# Altium schematic symbol library Common.SchLib: 115 symbols
Pins are listed as number, name and electrical type; pins without a type are passive.

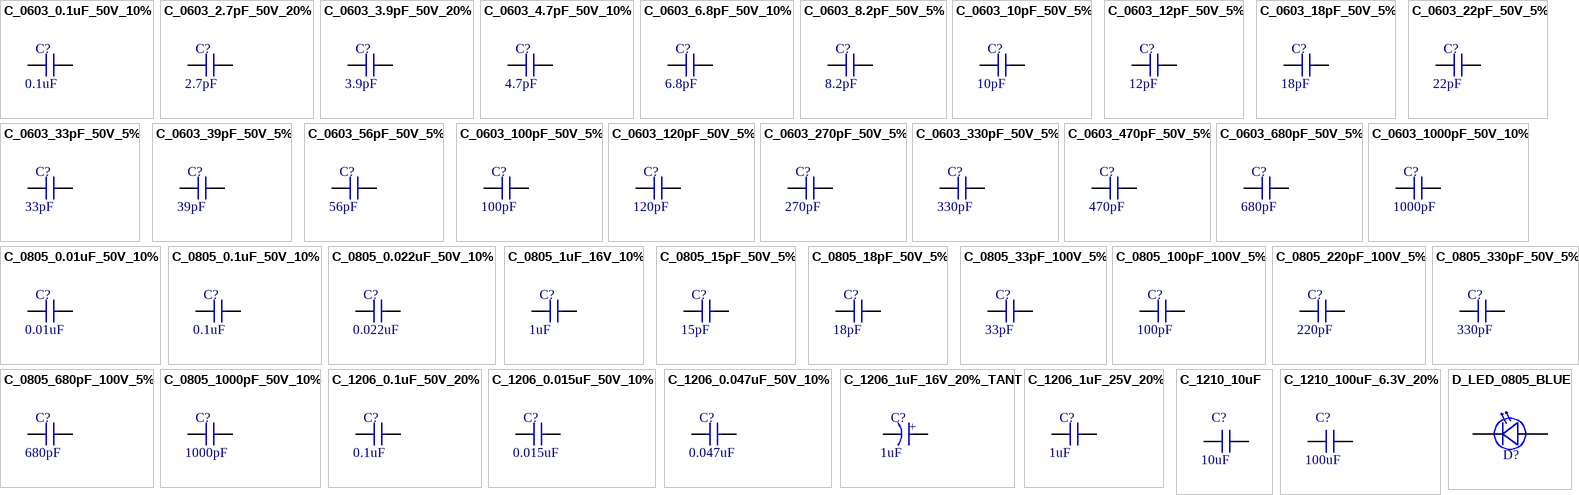
[diagram p0: symbols C_0603_0.1uF_50V_10% to D_LED_0805_BLUE]

## C_0603_0.1uF_50V_10%
designator C?, comment value 0.1uF  (hidden comment: CAP 0.1uF 50V X7R)
CAP CERM 0.1uF 10% 50V 0603; SVP Creator: Spencer Berglund; Package: =SelectedPackage; Voltage: 50V; Temperature Coefficient: X7R; Supplier 1: Digi-Key; Supplier Part Number 1: 1276-1000-1-ND
simulation model Capacitor (Capacitor Model)
footprint 0603_CAPACITOR (0603 Capacitor)
pins: 1, 2

## C_0603_2.7pF_50V_20%
designator C?, comment value 2.7pF  (hidden comment: CAP 2.7pF 50V NP0)
CAP CERM 2.7pF 20% 50V 0603; SVP Creator: Spencer Berglund; Package: =SelectedPackage; Voltage: 50V; Temperature Coefficient: NP0; Supplier 1: Digi-Key; Supplier Part Number 1: 1276-2258-1-ND
simulation model Capacitor (Capacitor Model)
footprint 0603_CAPACITOR (0603 Capacitor)
pins: 1, 2

## C_0603_3.9pF_50V_20%
designator C?, comment value 3.9pF  (hidden comment: CAP 3.9pF 50V NP0)
CAP CERM 3.9pF 20% 50V 0603; SVP Creator: Spencer Berglund; Package: =SelectedPackage; Voltage: 50V; Temperature Coefficient: NP0; Supplier 1: Digi-Key; Supplier Part Number 1: 1276-1146-1-ND
simulation model Capacitor (Capacitor Model)
footprint 0603_CAPACITOR (0603 Capacitor)
pins: 1, 2

## C_0603_4.7pF_50V_10%
designator C?, comment value 4.7pF  (hidden comment: CAP 4.7pF 50V NP0)
CAP CERM 4.7pF 10% 50V 0603; SVP Creator: Spencer Berglund; Package: =SelectedPackage; Voltage: 50V; Temperature Coefficient: NP0; Supplier 1: Digi-Key; Supplier Part Number 1: 1276-1282-1-ND
simulation model Capacitor (Capacitor Model)
footprint 0603_CAPACITOR (0603 Capacitor)
pins: 1, 2

## C_0603_6.8pF_50V_10%
designator C?, comment value 6.8pF  (hidden comment: CAP 6.8pF 50V NP0)
CAP CERM 6.8pF 10% 50V 0603; SVP Creator: Spencer Berglund; Package: =SelectedPackage; Voltage: 50V; Temperature Coefficient: NP0; Supplier 1: Digi-Key; Supplier Part Number 1: 1276-1793-1-ND
simulation model Capacitor (Capacitor Model)
footprint 0603_CAPACITOR (0603 Capacitor)
pins: 1, 2

## C_0603_8.2pF_50V_5%
designator C?, comment value 8.2pF  (hidden comment: CAP 8.2pF 50V NP0)
CAP CERM 8.2pF 5% 50V 0603; SVP Creator: Spencer Berglund; Package: =SelectedPackage; Voltage: 50V; Temperature Coefficient: NP0; Supplier 1: Digi-Key; Supplier Part Number 1: 1276-1257-1-ND
simulation model Capacitor (Capacitor Model)
footprint 0603_CAPACITOR (0603 Capacitor)
pins: 1, 2

## C_0603_10pF_50V_5%
designator C?, comment value 10pF  (hidden comment: CAP 10pF 50V NP0)
CAP CERM 10pF 5% 50V 0603; SVP Creator: Spencer Berglund; Package: =SelectedPackage; Voltage: 50V; Temperature Coefficient: NP0; Supplier 1: Digi-Key; Supplier Part Number 1: 1276-1027-1-ND
simulation model Capacitor (Capacitor Model)
footprint 0603_CAPACITOR (0603 Capacitor)
pins: 1, 2

## C_0603_12pF_50V_5%
designator C?, comment value 12pF  (hidden comment: CAP 12pF 50V NP0)
CAP CERM 12pF 5% 50V 0603; SVP Creator: Spencer Berglund; Package: =SelectedPackage; Voltage: 50V; Temperature Coefficient: NP0; Supplier 1: Digi-Key; Supplier Part Number 1: 1276-1254-1-ND
simulation model Capacitor (Capacitor Model)
footprint 0603_CAPACITOR (0603 Capacitor)
pins: 1, 2

## C_0603_18pF_50V_5%
designator C?, comment value 18pF  (hidden comment: CAP 18pF 50V NP0)
CAP CERM 18pF 5% 50V 0603; SVP Creator: Spencer Berglund; Package: =SelectedPackage; Voltage: 50V; Temperature Coefficient: NP0; Supplier 1: Digi-Key; Supplier Part Number 1: 1276-1089-1-ND
simulation model Capacitor (Capacitor Model)
footprint 0603_CAPACITOR (0603 Capacitor)
pins: 1, 2

## C_0603_22pF_50V_5%
designator C?, comment value 22pF  (hidden comment: CAP 22pF 50V NP0)
CAP CERM 22pF 5% 50V 0603; SVP Creator: Spencer Berglund; Package: =SelectedPackage; Voltage: 50V; Temperature Coefficient: NP0; Supplier 1: Digi-Key; Supplier Part Number 1: 1276-1023-1-ND
simulation model Capacitor (Capacitor Model)
footprint 0603_CAPACITOR (0603 Capacitor)
pins: 1, 2

## C_0603_33pF_50V_5%
designator C?, comment value 33pF  (hidden comment: CAP 33pF 50V NP0)
CAP CERM 33pF 5% 50V 0603; SVP Creator: Spencer Berglund; Package: =SelectedPackage; Voltage: 50V; Temperature Coefficient: NP0; Supplier 1: Digi-Key; Supplier Part Number 1: 1276-1070-1-ND
simulation model Capacitor (Capacitor Model)
footprint 0603_CAPACITOR (0603 Capacitor)
pins: 1, 2

## C_0603_39pF_50V_5%
designator C?, comment value 39pF  (hidden comment: CAP 39pF 50V NP0)
CAP CERM 39pF 5% 50V 0603; SVP Creator: Spencer Berglund; Package: =SelectedPackage; Voltage: 50V; Temperature Coefficient: NP0; Supplier 1: Digi-Key; Supplier Part Number 1: 1276-1087-1-ND
simulation model Capacitor (Capacitor Model)
footprint 0603_CAPACITOR (0603 Capacitor)
pins: 1, 2

## C_0603_56pF_50V_5%
designator C?, comment value 56pF  (hidden comment: CAP 56pF 50V NP0)
CAP CERM 56pF 5% 50V 0603; SVP Creator: Spencer Berglund; Package: =SelectedPackage; Voltage: 50V; Temperature Coefficient: NP0; Supplier 1: Digi-Key; Supplier Part Number 1: 1276-1197-1-ND
simulation model Capacitor (Capacitor Model)
footprint 0603_CAPACITOR (0603 Capacitor)
pins: 1, 2

## C_0603_100pF_50V_5%
designator C?, comment value 100pF  (hidden comment: CAP 100pF 50V NP0)
CAP CERM 100pF 5% 50V 0603; SVP Creator: Spencer Berglund; Package: =SelectedPackage; Voltage: 50V; Temperature Coefficient: NP0; Supplier 1: Digi-Key; Supplier Part Number 1: 1276-1008-1-ND
simulation model Capacitor (Capacitor Model)
footprint 0603_CAPACITOR (0603 Capacitor)
pins: 1, 2

## C_0603_120pF_50V_5%
designator C?, comment value 120pF  (hidden comment: CAP 120pF 50V NP0)
CAP CERM 120pF 5% 50V 0603; SVP Creator: Spencer Berglund; Package: =SelectedPackage; Voltage: 50V; Temperature Coefficient: NP0; Supplier 1: Digi-Key; Supplier Part Number 1: 1276-1160-1-ND
simulation model Capacitor (Capacitor Model)
footprint 0603_CAPACITOR (0603 Capacitor)
pins: 1, 2

## C_0603_270pF_50V_5%
designator C?, comment value 270pF  (hidden comment: CAP 270pF 50V NP0)
CAP CERM 270pF 5% 50V 0603; SVP Creator: Spencer Berglund; Package: =SelectedPackage; Voltage: 50V; Temperature Coefficient: NP0; Supplier 1: Digi-Key; Supplier Part Number 1: 1276-1256-1-ND
simulation model Capacitor (Capacitor Model)
footprint 0603_CAPACITOR (0603 Capacitor)
pins: 1, 2

## C_0603_330pF_50V_5%
designator C?, comment value 330pF  (hidden comment: CAP 330pF 50V NP0)
CAP CERM 330pF 5% 50V 0603; SVP Creator: Spencer Berglund; Package: =SelectedPackage; Voltage: 50V; Temperature Coefficient: NP0; Supplier 1: Digi-Key; Supplier Part Number 1: 1276-1073-1-ND
simulation model Capacitor (Capacitor Model)
footprint 0603_CAPACITOR (0603 Capacitor)
pins: 1, 2

## C_0603_470pF_50V_5%
designator C?, comment value 470pF  (hidden comment: CAP 470pF 50V NP0)
CAP CERM 470pF 5% 50V 0603; SVP Creator: Spencer Berglund; Package: =SelectedPackage; Voltage: 50V; Temperature Coefficient: NP0; Supplier 1: Digi-Key; Supplier Part Number 1: 1276-1168-1-ND
simulation model Capacitor (Capacitor Model)
footprint 0603_CAPACITOR (0603 Capacitor)
pins: 1, 2

## C_0603_680pF_50V_5%
designator C?, comment value 680pF  (hidden comment: CAP 680pF 50V NP0)
CAP CERM 680pF 5% 50V 0603; SVP Creator: Spencer Berglund; Package: =SelectedPackage; Voltage: 50V; Temperature Coefficient: NP0; Supplier 1: Digi-Key; Supplier Part Number 1: 1276-1820-1-ND
simulation model Capacitor (Capacitor Model)
footprint 0603_CAPACITOR (0603 Capacitor)
pins: 1, 2

## C_0603_1000pF_50V_10%
designator C?, comment value 1000pF  (hidden comment: CAP 1000pF 50V X7R)
CAP CERM 1000pF 10% 50V 0603; SVP Creator: Spencer Berglund; Package: =SelectedPackage; Voltage: 50V; Temperature Coefficient: X7R; Supplier 1: Digi-Key; Supplier Part Number 1: 1276-1018-1-ND
simulation model Capacitor (Capacitor Model)
footprint 0603_CAPACITOR (0603 Capacitor)
pins: 1, 2

## C_0805_0.01uF_50V_10%
designator C?, comment value 0.01uF  (hidden comment: CAP 0.01uF 50V X7R)
CAP CERM 0.01uF 10% 50V 0805; SVP Creator: Spencer Berglund; Package: =SelectedPackage; Voltage: 50V; Temperature Coefficient: X7R; Supplier 1: Digi-Key; Supplier Part Number 1: 1276-1078-1-ND
footprint 0805_Capacitor (0805 Capacitor)
simulation model Capacitor (Capacitor Model)
pins: 1, 2

## C_0805_0.1uF_50V_10%
designator C?, comment value 0.1uF  (hidden comment: CAP 0.1uF 50V X7R)
CAP CERM 0.1uF 10% 50V 0805; SVP Creator: Spencer Berglund; Package: =SelectedPackage; Voltage: 50V; Temperature Coefficient: X7R; Supplier 1: Digi-Key; Supplier Part Number 1: 1276-1003-1-ND
footprint 0805_Capacitor (0805 Capacitor)
simulation model Capacitor (Capacitor Model)
pins: 1, 2

## C_0805_0.022uF_50V_10%
designator C?, comment value 0.022uF  (hidden comment: CAP 0.022uF 50V X7R)
CAP CERM 0.022uF 10% 50V 0805; SVP Creator: Spencer Berglund; Package: =SelectedPackage; Voltage: 50V; Temperature Coefficient: X7R; Supplier 1: Digi-Key; Supplier Part Number 1: 1276-1795-1-ND
footprint 0805_Capacitor (0805 Capacitor)
simulation model Capacitor (Capacitor Model)
pins: 1, 2

## C_0805_1uF_16V_10%
designator C?, comment value 1uF  (hidden comment: CAP 1uF 16V X7R)
CAP CERM 1uF 10% 16V 0805; SVP Creator: Spencer Berglund; Package: =SelectedPackage; Voltage: 16V; Temperature Coefficient: X7R; Supplier 1: Digi-Key; Supplier Part Number 1: 1276-6471-1-ND
footprint 0805_Capacitor (0805 Capacitor)
simulation model Capacitor (Capacitor Model)
pins: 1, 2

## C_0805_15pF_50V_5%
designator C?, comment value 15pF  (hidden comment: CAP 15pF 50V NP0)
CAP CERM 15pF 5% 50V 0805; SVP Creator: Spencer Berglund; Package: =SelectedPackage; Voltage: 50V; Temperature Coefficient: NP0; Supplier 1: Digi-Key; Supplier Part Number 1: 1276-1163-1-ND
footprint 0805_Capacitor (0805 Capacitor)
simulation model Capacitor (Capacitor Model)
pins: 1, 2

## C_0805_18pF_50V_5%
designator C?, comment value 18pF  (hidden comment: CAP 18pF 50V NP0)
CAP CERM 18pF 5% 50V 0805; SVP Creator: Spencer Berglund; Package: =SelectedPackage; Voltage: 50V; Temperature Coefficient: NP0; Supplier 1: Digi-Key; Supplier Part Number 1: 1276-1107-1-ND
footprint 0805_Capacitor (0805 Capacitor)
simulation model Capacitor (Capacitor Model)
pins: 1, 2

## C_0805_33pF_100V_5%
designator C?, comment value 33pF  (hidden comment: CAP 33pF 100V C0G)
CAP CERM 33pF 5% 100V 0805; SVP Creator: Spencer Berglund; Package: =SelectedPackage; Voltage: 100V; Temperature Coefficient: C0G; Supplier 1: Digi-Key; Supplier Part Number 1: 1276-2640-1-ND
footprint 0805_Capacitor (0805 Capacitor)
simulation model Capacitor (Capacitor Model)
pins: 1, 2

## C_0805_100pF_100V_5%
designator C?, comment value 100pF  (hidden comment: CAP 100pF 100V C0G)
CAP CERM 100pF 5% 100V 0805; SVP Creator: Spencer Berglund; Package: =SelectedPackage; Voltage: 100V; Temperature Coefficient: C0G; Supplier 1: Digi-Key; Supplier Part Number 1: 1276-1261-1-ND
footprint 0805_Capacitor (0805 Capacitor)
simulation model Capacitor (Capacitor Model)
pins: 1, 2

## C_0805_220pF_100V_5%
designator C?, comment value 220pF  (hidden comment: CAP 220pF 100V C0G)
CAP CERM 220pF 5% 100V 0805; SVP Creator: Spencer Berglund; Package: =SelectedPackage; Voltage: 100V; Temperature Coefficient: C0G; Supplier 1: Digi-Key; Supplier Part Number 1: 1276-2615-1-ND
footprint 0805_Capacitor (0805 Capacitor)
simulation model Capacitor (Capacitor Model)
pins: 1, 2

## C_0805_330pF_50V_5%
designator C?, comment value 330pF  (hidden comment: CAP 330pF 50V NP0)
CAP CERM 330pF 5% 50V 0805; SVP Creator: Spencer Berglund; Package: =SelectedPackage; Voltage: 50V; Temperature Coefficient: NP0; Supplier 1: Digi-Key; Supplier Part Number 1: 1276-2646-1-ND
footprint 0805_Capacitor (0805 Capacitor)
simulation model Capacitor (Capacitor Model)
pins: 1, 2

## C_0805_680pF_100V_5%
designator C?, comment value 680pF  (hidden comment: CAP 680pF 100V C0G)
CAP CERM 680pF 5% 100V 0805; SVP Creator: Spencer Berglund; Package: =SelectedPackage; Voltage: 100V; Temperature Coefficient: C0G; Supplier 1: Digi-Key; Supplier Part Number 1: 1276-1835-1-ND
footprint 0805_Capacitor (0805 Capacitor)
simulation model Capacitor (Capacitor Model)
pins: 1, 2

## C_0805_1000pF_50V_10%
designator C?, comment value 1000pF  (hidden comment: CAP 1000pF 50V X7R)
CAP CERM 1000pF 10% 50V 0805; SVP Creator: Spencer Berglund; Package: =SelectedPackage; Voltage: 50V; Temperature Coefficient: X7R; Supplier 1: Digi-Key; Supplier Part Number 1: 1276-1020-1-ND
footprint 0805_Capacitor (0805 Capacitor)
simulation model Capacitor (Capacitor Model)
pins: 1, 2

## C_1206_0.1uF_50V_20%
designator C?, comment value 0.1uF  (hidden comment: CAP 0.1uF 50V X7R)
CAP CERM 0.1uF 20% 50V 1206; SVP Creator: Spencer Berglund; Package: =SelectedPackage; Voltage: 50V; Temperature Coefficient: X7R; Supplier 1: Digi-Key; Supplier Part Number 1: 1276-2746-1-ND
simulation model Capacitor (Capacitor Model)
footprint 1206_CAPACITOR (1206 Resistor/Capacitor)
pins: 1, 2

## C_1206_0.015uF_50V_10%
designator C?, comment value 0.015uF  (hidden comment: CAP 0.015uF 50V X7R)
CAP CERM 0.015uF 10% 50V 1206; SVP Creator: Spencer Berglund; Package: =SelectedPackage; Voltage: 50V; Temperature Coefficient: X7R; Supplier 1: Digi-Key; Supplier Part Number 1: 1276-1773-1-ND
simulation model Capacitor (Capacitor Model)
footprint 1206_CAPACITOR (1206 Resistor/Capacitor)
pins: 1, 2

## C_1206_0.047uF_50V_10%
designator C?, comment value 0.047uF  (hidden comment: CAP 0.047uF 50V X7R)
CAP CERM 0.047uF 10% 50V 1206; SVP Creator: Spencer Berglund; Package: =SelectedPackage; Voltage: 50V; Temperature Coefficient: X7R; Supplier 1: Digi-Key; Supplier Part Number 1: 1276-1149-1-ND
simulation model Capacitor (Capacitor Model)
footprint 1206_CAPACITOR (1206 Resistor/Capacitor)
pins: 1, 2

## C_1206_1uF_16V_20%_TANT
designator C?  value 1uF
CAP TANT 1uF 20% 16V 1206; SVP Creator: Spencer Berglund; Type: Tantalum; Package: =SelectedPackage; Voltage: 16V; Supplier 1: Digi-Key; Supplier Part Number 1: 399-3681-1-ND
simulation model Capacitor (Capacitor Model)
footprint 1206_CAPACITOR_TANT (1206 Capacitor (Tantalum))
pins: 1, 2
text: +

## C_1206_1uF_25V_20%
designator C?, comment value 1uF  (hidden comment: CAP 1uF 25V X7R)
CAP CERM 1uF 20% 25V 1206; SVP Creator: Spencer Berglund; Package: =SelectedPackage; Voltage: 25V; Temperature Coefficient: X7R; Supplier 1: Digi-Key; Supplier Part Number 1: 1276-3098-1-ND
simulation model Capacitor (Capacitor Model)
footprint 1206_CAPACITOR (1206 Resistor/Capacitor)
pins: 1, 2

## C_1210_10uF
designator C?  value 10uF
CAP CER 10UF 50V 10% X5R 1210; Manufacturer: Taiyo Yuden; Manufacturer PN: UMK325BJ106KM-T; SVP Creator: Matt Rogge; Package: 1210; Supplier 1: Digi-Key; Supplier Part Number 1: 587-2247-1-ND
footprint 1210_Capacitor (1210 Capacitor)
simulation model Capacitor (Capacitor Model)
pins: 1, 2

## C_1210_100uF_6.3V_20%
designator C?, comment value 100uF  (hidden comment: C3225X5R0J107M250AC)
CAP CER 100UF 6.3V 20% X5R 1210; SVP Creator: Spencer Berglund; Package: 1210; Supplier 1: Digi-Key; Supplier Part Number 1: 445-1437-1-ND
footprint 1210_Capacitor (1210 Capacitor)
simulation model Capacitor (Capacitor Model)
pins: 1, 2

## D_LED_0805_BLUE
designator D?  (value not drawn)
LED 2X1.2MM 470NM BL WTR CLR SMD; Manufacturer: Kingbright; Manufacturer PN: APT2012QBC/D; SVP Creator: Jonathan Nutzmann; Current: 20mA; Forward Voltage: 3.3; Value: BLUE; Package: 0805; Supplier: Digikey; Supplier PN: 754-1437-1-ND; Supplier 1: Digi-Key; Supplier Part Number 1: 754-1437-1-ND
footprint 0805_BLUE (Chip Capacitor; Body 2.0 x 1.2 mm (LxW typ))
pins: 1 Cathode, 2 Anode

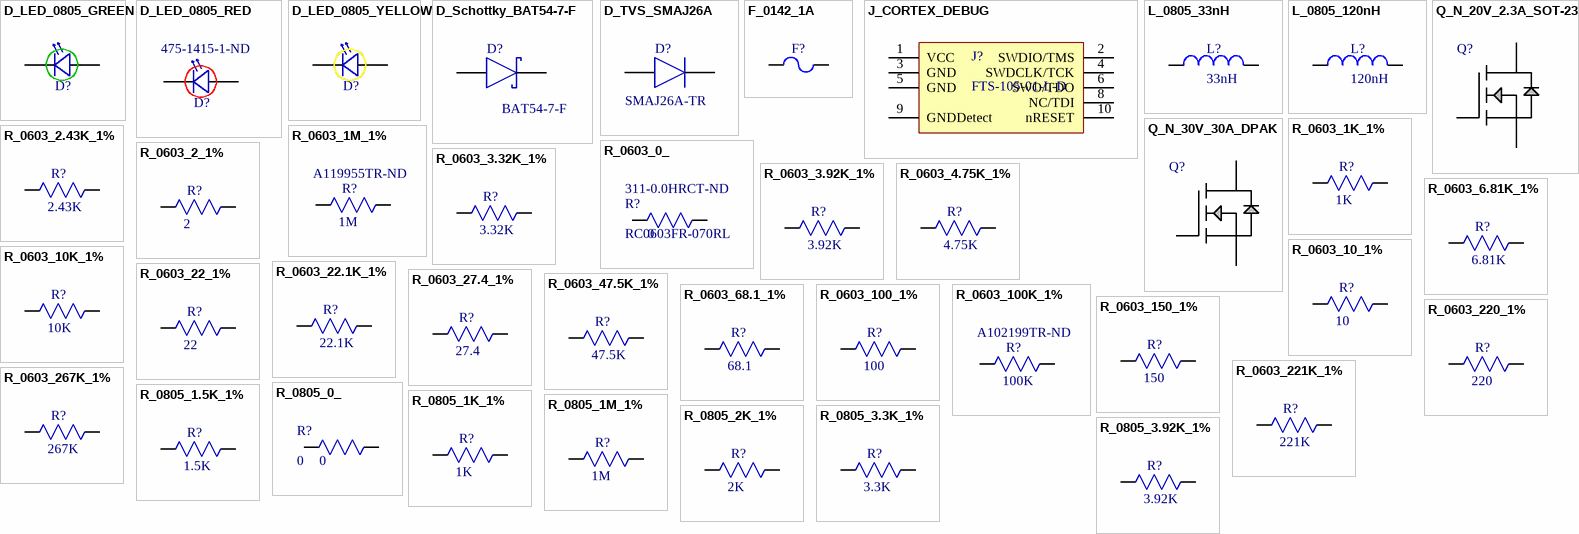
[diagram p1: symbols D_LED_0805_GREEN to R_0805_3.92K_1%]

## D_LED_0805_GREEN
designator D?  (value not drawn)
LED CHIPLED 570NM GREEN 0805 SMD; Manufacturer: Osram Opto Semiconductors Inc; Manufacturer PN: LG R971-KN-1-0-20-R18; SVP Creator: Nate Bolyard; Current: 20mA; Forward Voltage: 2.2V; Package: 0805; Supplier: Digikey; Value: GREEN; Supplier PN: 475-1410-1-ND; Supplier 1: Digi-Key; Supplier Part Number 1: 475-1410-1-ND
footprint 0805P_Green (Chip Capacitor; Body 2.0 x 1.2 mm (LxW typ))
pins: 1 Cathode, 2 Anode

## D_LED_0805_RED
designator D?  Supplier Part Number 1: 475-1415-1-ND  (hidden comment: D_LED_0805_RED)
LED CHIPLED 645NM RED DIFF 0805; Manufacturer: OSRAM Opto Semiconductors Inc; Manufacturer PN: LH R974-LP-1; SVP Creator: Jonathan Nutzmann; Current: 20mA; Forward Voltage: 1.8; Package: 0805; Value: RED; Supplier 1: Digi-Key
footprint 0805P_RED (Chip Capacitor; Body 2.0 x 1.2 mm (LxW typ))
pins: 1 Cathode, 2 Anode

## D_LED_0805_YELLOW
designator D?  (value not drawn)
LED 595NM AMBER DIFF SMD 0805; Manufacturer: Avago Technologies US Inc.; Manufacturer PN: HSMA-C170; SVP Creator: Jonathan Nutzmann; Current: 20mA; Forward Voltage: 1.9; Package: 0805; Supplier: Digikey; Value: Amber; Supplier PN: 516-1431-1-ND; Supplier 1: Digi-Key; Supplier Part Number 1: 516-1431-1-ND
footprint 0805P_YELLOW (Chip Capacitor; Body 2.0 x 1.2 mm (LxW typ))
pins: 1 Cathode, 2 Anode

## D_Schottky_BAT54-7-F
designator D?, comment Manufacturer PN: BAT54-7-F  (hidden comment: SCHOTTKY 30V 1A)
DIODE SCHOTTKY 30V 200MW SOT23-3; Manufacturer: Diodes Inc; SVP Creator: Brett Paulsen; Current: 200mA; Vf: 0.8V @ 100mA; Package: SOT23-3; Supplier: Digi-Key; Voltage: 30V; Supplier PN: BAT54-FDICT-ND; Supplier 1: Digi-Key; Supplier Part Number 1: BAT54-FDICT-ND
footprint SOT-23 (SOT23, 3-Leads, Body 3.0x2.7mm (max), Pitch 0.95mm, IPC Medium Density)
simulation model SKYDIODE (Default Schottky Diode)
pins: 1, 3

## D_TVS_SMAJ26A
designator D?, comment Manufacturer PN: SMAJ26A-TR  (hidden comment: TVS 28V)
TVS DIODE 26VWM 53.5VC SMA; Manufacturer: STMicroelectronics; SVP Creator: Spencer Berglund; Package: SMA; Supplier 1: Digi-Key; Supplier Part Number 1: 497-15656-1-ND
footprint SMA_DIODE (DO-214AC SMA Dode Footprint)
pins: 1 A, 2 K

## F_0142_1A
designator F?  (value not drawn)
SVP Creator: Spencer Berglund; Current: 1A; Supplier 1: Digi-Key; Supplier Part Number 1: F1889-ND
footprint 0154_FUSE_HOLDER (FUSE BLOK CARTRIDGE 125V 10A SMD)
simulation model FUSE (FUSE:Fuse Subcircuit Parameters)
pins: 1, 2

## J_CORTEX_DEBUG
designator J?, comment FTS-105-01-L-D
CORTEX JTAG DEBUG CONNECTOR; Manufacturer: Samtec Inc; SVP Creator: Jonathan Nutzmann; Manufacturer PN: FTS-105-01-L-D; Supplier 1: Digi-Key; Supplier Part Number 1: SAM1156-05-ND
footprint CORTEX_DEBUG
pins: 1 VCC, 2 SWDIO/TMS, 3 GND, 4 SWDCLK/TCK, 5 GND, 6 SWO/TDO, 8 NC/TDI, 9 GNDDetect, 10 nRESET

## L_0805_33nH
designator L?, comment 33nH
Supplier 1: Digi-Key; Supplier Part Number 1: CE201210-33NJCT-ND; Value: 33nH
footprint 0805_L_Bourns
pins: 1, 2

## L_0805_120nH
designator L?, comment 120nH
Supplier 1: Digi-Key; Supplier Part Number 1: CE201210-R12JCT-ND; Value: 120nH
footprint 0805_L_Bourns
pins: 1, 2

## Q_N_20V_2.3A_SOT-23
designator Q?
MOSFET N-CH 20V 2.3A SOT-23; Manufacturer: STMicroelectronics; Manufacturer PN: STR2N2VH5; SVP Creator: Mitchell Rogalsky; Gate: Logic Level Gate, 2.5V Drive; Ptotal: 350mW; Package: SOT-23; Supplier: Digikey; Supplier PN: 497-13883-1-ND; Voltage Rating: 20V; Current Rating: 2.3A; Supplier 1: Digi-Key; Supplier Part Number 1: 497-13883-1-ND
footprint SOT-23 (SOT23, 3-Leads, Body 3.0x2.7mm (max), Pitch 0.95mm, IPC Medium Density)
pins: 1 GATE, 2 SOURCE, 3 DRAIN

## Q_N_30V_30A_DPAK
designator Q?  (value not drawn)
MOSFET N-CH 30V 30A DPAK; Manufacturer: STMicroelectronics; Manufacturer Part Number: STD30NF03LT4; FET Type: MOSFET N-Channel, Metal Oxide; FET Feature: Logic Level Gate; Current - Continuous Drain (Id) @ 25°C: 30A (Tc); Rds On (Max) @ Id, Vgs: 25 mOhm @ 15A, 10V; Vgs(th) (Max) @ Id: 2.5V @ 250µA; Gate Charge (Qg) @ Vgs: 18nC @ 5V; Input Capacitance (Ciss) @ Vds: 830pF @ 25V; Power - Max: 50W; SVP Creator: Mitchell Rogalsky; Supplier: DigiKey; Drain to Source Voltage (Vdss): 30V; Mounting Type: Surface Mount; Supplier Device Package: D-Pak; Supplier PN: 497-3157-1-ND; Supplier 1: Digi-Key; Supplier Part Number 1: 497-3157-1-ND
footprint DPAK
pins: 1 DRAIN, 2 SOURCE, 3 GATE

## R_0603_0_
designator R?, comment RC0603FR-070RL  value 0  Supplier Part Number 1: 311-0.0HRCT-ND
RES 0 OHM 1/10W 0603 SMD; Manufacturer: Yageo; Maximum Working Voltage: 75V; Maximum Overload Voltage: 150V; Rated Current: 1.0A; Maximum Current: 2.0A; NOTE: Also 1/5 W; Power: 1/10W; Operating Temperature Range: -55C to 155C; Manufacturer Part Number: RC0603FR-070RL; Supplier 1: Digi-Key
footprint 0603_RESISTOR (0603 RESISTOR)
pins: 1, 2

## R_0603_1K_1%
designator R?  value 1K  (hidden comment: R_0603_1K_1%)
RES 1K OHM 1/16W 1% 0603 SMD; Power Rating: 0.0625W; SVP Creator: Spencer Berglund; Supplier 1: Digi-Key; Supplier Part Number 1: 311-1.00KHRCT-ND
simulation model Resistor (Resistor Model)
footprint 0603_RESISTOR (0603 RESISTOR)
pins: 1, 2

## R_0603_1M_1%
designator R?  value 1M  Supplier Part Number 1: A119955TR-ND  (hidden comment: R_0603_1M_1%)
RES 1M OHM 1/16W 1% 0603 SMD; Power Rating: 0.0625W; SVP Creator: Spencer Berglund; Supplier 1: Digi-Key
simulation model Resistor (Resistor Model)
footprint 0603_RESISTOR (0603 RESISTOR)
pins: 1, 2

## R_0603_2.43K_1%
designator R?  value 2.43K  (hidden comment: R_0603_2.43K_1%)
RES 2.43K OHM 1/16W 1% 0603 SMD; Power Rating: 0.0625W; SVP Creator: Spencer Berglund; Supplier 1: Digi-Key; Supplier Part Number 1: 311-2.43KHRCT-ND
simulation model Resistor (Resistor Model)
footprint 0603_RESISTOR (0603 RESISTOR)
pins: 1, 2

## R_0603_2_1%
designator R?  value 2  (hidden comment: R_0603_2_1%)
RES 2 OHM 1/10W 1% 0603 SMD; Power Rating: 0.1W; SVP Creator: Spencer Berglund; Supplier 1: Digi-Key; Supplier Part Number 1: 311-2.00HRCT-ND
simulation model Resistor (Resistor Model)
footprint 0603_RESISTOR (0603 RESISTOR)
pins: 1, 2

## R_0603_3.32K_1%
designator R?  value 3.32K  (hidden comment: R_0603_3.32K_1%)
RES 3.32K OHM 1/16W 1% 0603 SMD; Power Rating: 0.0625W; SVP Creator: Spencer Berglund; Supplier 1: Digi-Key; Supplier Part Number 1: 311-3.32KHRCT-ND
simulation model Resistor (Resistor Model)
footprint 0603_RESISTOR (0603 RESISTOR)
pins: 1, 2

## R_0603_3.92K_1%
designator R?  value 3.92K  (hidden comment: R_0603_3.92K_1%)
RES 3.92K OHM 1/16W 1% 0603 SMD; Power Rating: 0.0625W; SVP Creator: Spencer Berglund; Supplier 1: Digi-Key; Supplier Part Number 1: 311-3.92KHRCT-ND
simulation model Resistor (Resistor Model)
footprint 0603_RESISTOR (0603 RESISTOR)
pins: 1, 2

## R_0603_4.75K_1%
designator R?  value 4.75K  (hidden comment: R_0603_4.75K_1%)
RES 4.75K OHM 1/16W 1% 0603 SMD; Power Rating: 0.0625W; SVP Creator: Spencer Berglund; Supplier 1: Digi-Key; Supplier Part Number 1: 311-4.75KHRCT-ND
simulation model Resistor (Resistor Model)
footprint 0603_RESISTOR (0603 RESISTOR)
pins: 1, 2

## R_0603_6.81K_1%
designator R?  value 6.81K  (hidden comment: R_0603_6.81K_1%)
RES 6.81K OHM 1/16W 1% 0603 SMD; Power Rating: 0.0625W; SVP Creator: Spencer Berglund; Supplier 1: Digi-Key; Supplier Part Number 1: 311-6.81KHRCT-ND
simulation model Resistor (Resistor Model)
footprint 0603_RESISTOR (0603 RESISTOR)
pins: 1, 2

## R_0603_10_1%
designator R?  value 10  (hidden comment: R_0603_10_1%)
RES 10 OHM 1/16W 1% 0603 SMD; Power Rating: 0.0625W; SVP Creator: Spencer Berglund; Supplier 1: Digi-Key; Supplier Part Number 1: 311-10.0HRCT-ND
simulation model Resistor (Resistor Model)
footprint 0603_RESISTOR (0603 RESISTOR)
pins: 1, 2

## R_0603_10K_1%
designator R?  value 10K  (hidden comment: R_0603_10K_1%)
RES 10K OHM 1/16W 1% 0603 SMD; Power Rating: 0.0625W; SVP Creator: Spencer Berglund; Supplier 1: Digi-Key; Supplier Part Number 1: 311-10.0KHRCT-ND
simulation model Resistor (Resistor Model)
footprint 0603_RESISTOR (0603 RESISTOR)
pins: 1, 2

## R_0603_22.1K_1%
designator R?  value 22.1K  (hidden comment: R_0603_22.1K_1%)
RES 22.1K OHM 1/16W 1% 0603 SMD; Power Rating: 0.0625W; SVP Creator: Spencer Berglund; Supplier 1: Digi-Key; Supplier Part Number 1: 311-22.1KHRCT-ND
simulation model Resistor (Resistor Model)
footprint 0603_RESISTOR (0603 RESISTOR)
pins: 1, 2

## R_0603_22_1%
designator R?  value 22  (hidden comment: R_0603_22_1%)
RES 22 OHM 1/16W 1% 0603 SMD; Power Rating: 0.0625W; SVP Creator: Spencer Berglund; Supplier 1: Digi-Key; Supplier Part Number 1: 311-22.1HRCT-ND
simulation model Resistor (Resistor Model)
footprint 0603_RESISTOR (0603 RESISTOR)
pins: 1, 2

## R_0603_27.4_1%
designator R?  value 27.4  (hidden comment: R_0603_27.4_1%)
RES 27.4 OHM 1/16W 1% 0603 SMD; Power Rating: 0.0625W; SVP Creator: Spencer Berglund; Supplier 1: Digi-Key; Supplier Part Number 1: 311-27.4HRCT-ND
simulation model Resistor (Resistor Model)
footprint 0603_RESISTOR (0603 RESISTOR)
pins: 1, 2

## R_0603_47.5K_1%
designator R?  value 47.5K  (hidden comment: R_0603_47.5K_1%)
RES 47.5K OHM 1/16W 1% 0603 SMD; Power Rating: 0.0625W; SVP Creator: Spencer Berglund; Supplier 1: Digi-Key; Supplier Part Number 1: 311-47.5KHRCT-ND
simulation model Resistor (Resistor Model)
footprint 0603_RESISTOR (0603 RESISTOR)
pins: 1, 2

## R_0603_68.1_1%
designator R?  value 68.1  (hidden comment: R_0603_68.1_1%)
RES 68.1 OHM 1/16W 1% 0603 SMD; Power Rating: 0.0625W; SVP Creator: Spencer Berglund; Supplier 1: Digi-Key; Supplier Part Number 1: 311-68.1HRCT-ND
simulation model Resistor (Resistor Model)
footprint 0603_RESISTOR (0603 RESISTOR)
pins: 1, 2

## R_0603_100_1%
designator R?  value 100  (hidden comment: R_0603_100_1%)
RES 100 OHM 1/16W 1% 0603 SMD; Power Rating: 0.0625W; SVP Creator: Spencer Berglund; Supplier 1: Digi-Key; Supplier Part Number 1: 311-100HRCT-ND
simulation model Resistor (Resistor Model)
footprint 0603_RESISTOR (0603 RESISTOR)
pins: 1, 2

## R_0603_100K_1%
designator R?  value 100K  Supplier Part Number 1: A102199TR-ND  (hidden comment: R_0603_100K_1%)
RES 100K OHM 1/16W 1% 0603 SMD; Power Rating: 0.0625W; SVP Creator: Spencer Berglund; Supplier 1: Digi-Key
simulation model Resistor (Resistor Model)
footprint 0603_RESISTOR (0603 RESISTOR)
pins: 1, 2

## R_0603_150_1%
designator R?  value 150  (hidden comment: R_0603_150_1%)
RES 150 OHM 1/16W 1% 0603 SMD; Power Rating: 0.0625W; SVP Creator: Spencer Berglund; Supplier 1: Digi-Key; Supplier Part Number 1: 311-150HRCT-ND
simulation model Resistor (Resistor Model)
footprint 0603_RESISTOR (0603 RESISTOR)
pins: 1, 2

## R_0603_220_1%
designator R?  value 220  (hidden comment: R_0603_220_1%)
RES 220 OHM 1/16W 1% 0603 SMD; Power Rating: 0.0625W; SVP Creator: Spencer Berglund; Supplier 1: Digi-Key; Supplier Part Number 1: 311-220HRCT-ND
simulation model Resistor (Resistor Model)
footprint 0603_RESISTOR (0603 RESISTOR)
pins: 1, 2

## R_0603_221K_1%
designator R?  value 221K  (hidden comment: R_0603_221K_1%)
RES 221K OHM 1/16W 1% 0603 SMD; Power Rating: 0.0625W; SVP Creator: Spencer Berglund; Supplier 1: Digi-Key; Supplier Part Number 1: 311-221KHRCT-ND
simulation model Resistor (Resistor Model)
footprint 0603_RESISTOR (0603 RESISTOR)
pins: 1, 2

## R_0603_267K_1%
designator R?  value 267K  (hidden comment: R_0603_267K_1%)
RES 267K OHM 1/16W 1% 0603 SMD; Power Rating: 0.0625W; SVP Creator: Spencer Berglund; Supplier 1: Digi-Key; Supplier Part Number 1: 311-267KHRCT-ND
simulation model Resistor (Resistor Model)
footprint 0603_RESISTOR (0603 RESISTOR)
pins: 1, 2

## R_0805_0_
designator R?, comment 0
RES 0.0 OHM 1/8W  0805 SMD; Manufacturer Part Number: RC0805JR-070RL; Manufacturer: Yageo; NOTE: Also available 1/4 W; Supplier: DigiKey; Supplier Part Number: 311-0.0ARCT-ND; Power: 1/8 W; Operating Temperature: -55C to 155C; Resistance: 0
footprint 0805_Resistor (0805 Resistor)
pins: 1, 2

## R_0805_1.5K_1%
designator R?  value 1.5K  (hidden comment: R_0805_1.5K_1%)
RES 1.5K OHM 1/8W 1% 0805 SMD; Power Rating: 0.125W; SVP Creator: Spencer Berglund; Supplier 1: Digi-Key; Supplier Part Number 1: 311-1.50KCRCT-ND
footprint 0805_Resistor (0805 Resistor)
simulation model Resistor (Resistor Model)
pins: 1, 2

## R_0805_1K_1%
designator R?  value 1K  (hidden comment: R_0805_1K_1%)
RES 1K OHM 1/8W 1% 0805 SMD; Power Rating: 0.125W; SVP Creator: Spencer Berglund; Supplier 1: Digi-Key; Supplier Part Number 1: 311-1.00KCRCT-ND
footprint 0805_Resistor (0805 Resistor)
simulation model Resistor (Resistor Model)
pins: 1, 2

## R_0805_1M_1%
designator R?  value 1M  (hidden comment: R_0805_1M_1%)
RES 1M OHM 1/8W 1% 0805 SMD; Power Rating: 0.125W; SVP Creator: Spencer Berglund; Supplier 1: Digi-Key; Supplier Part Number 1: 311-1.00MCRCT-ND
footprint 0805_Resistor (0805 Resistor)
simulation model Resistor (Resistor Model)
pins: 1, 2

## R_0805_2K_1%
designator R?  value 2K  (hidden comment: R_0805_2K_1%)
RES 2K OHM 1/8W 1% 0805 SMD; Power Rating: 0.125W; SVP Creator: Spencer Berglund; Supplier 1: Digi-Key; Supplier Part Number 1: 311-2.00KCRCT-ND
footprint 0805_Resistor (0805 Resistor)
simulation model Resistor (Resistor Model)
pins: 1, 2

## R_0805_3.3K_1%
designator R?  value 3.3K  (hidden comment: R_0805_3.3K_1%)
RES 3.3K OHM 1/8W 1% 0805 SMD; Power Rating: 0.125W; SVP Creator: Spencer Berglund; Supplier 1: Digi-Key; Supplier Part Number 1: 311-3.30KCRCT-ND
footprint 0805_Resistor (0805 Resistor)
simulation model Resistor (Resistor Model)
pins: 1, 2

## R_0805_3.92K_1%
designator R?  value 3.92K  (hidden comment: R_0805_3.92K_1%)
RES 3.92K OHM 1/8W 1% 0805 SMD; Power Rating: 0.125W; SVP Creator: Spencer Berglund; Supplier 1: Digi-Key; Supplier Part Number 1: 311-3.92KCRCT-ND
footprint 0805_Resistor (0805 Resistor)
simulation model Resistor (Resistor Model)
pins: 1, 2

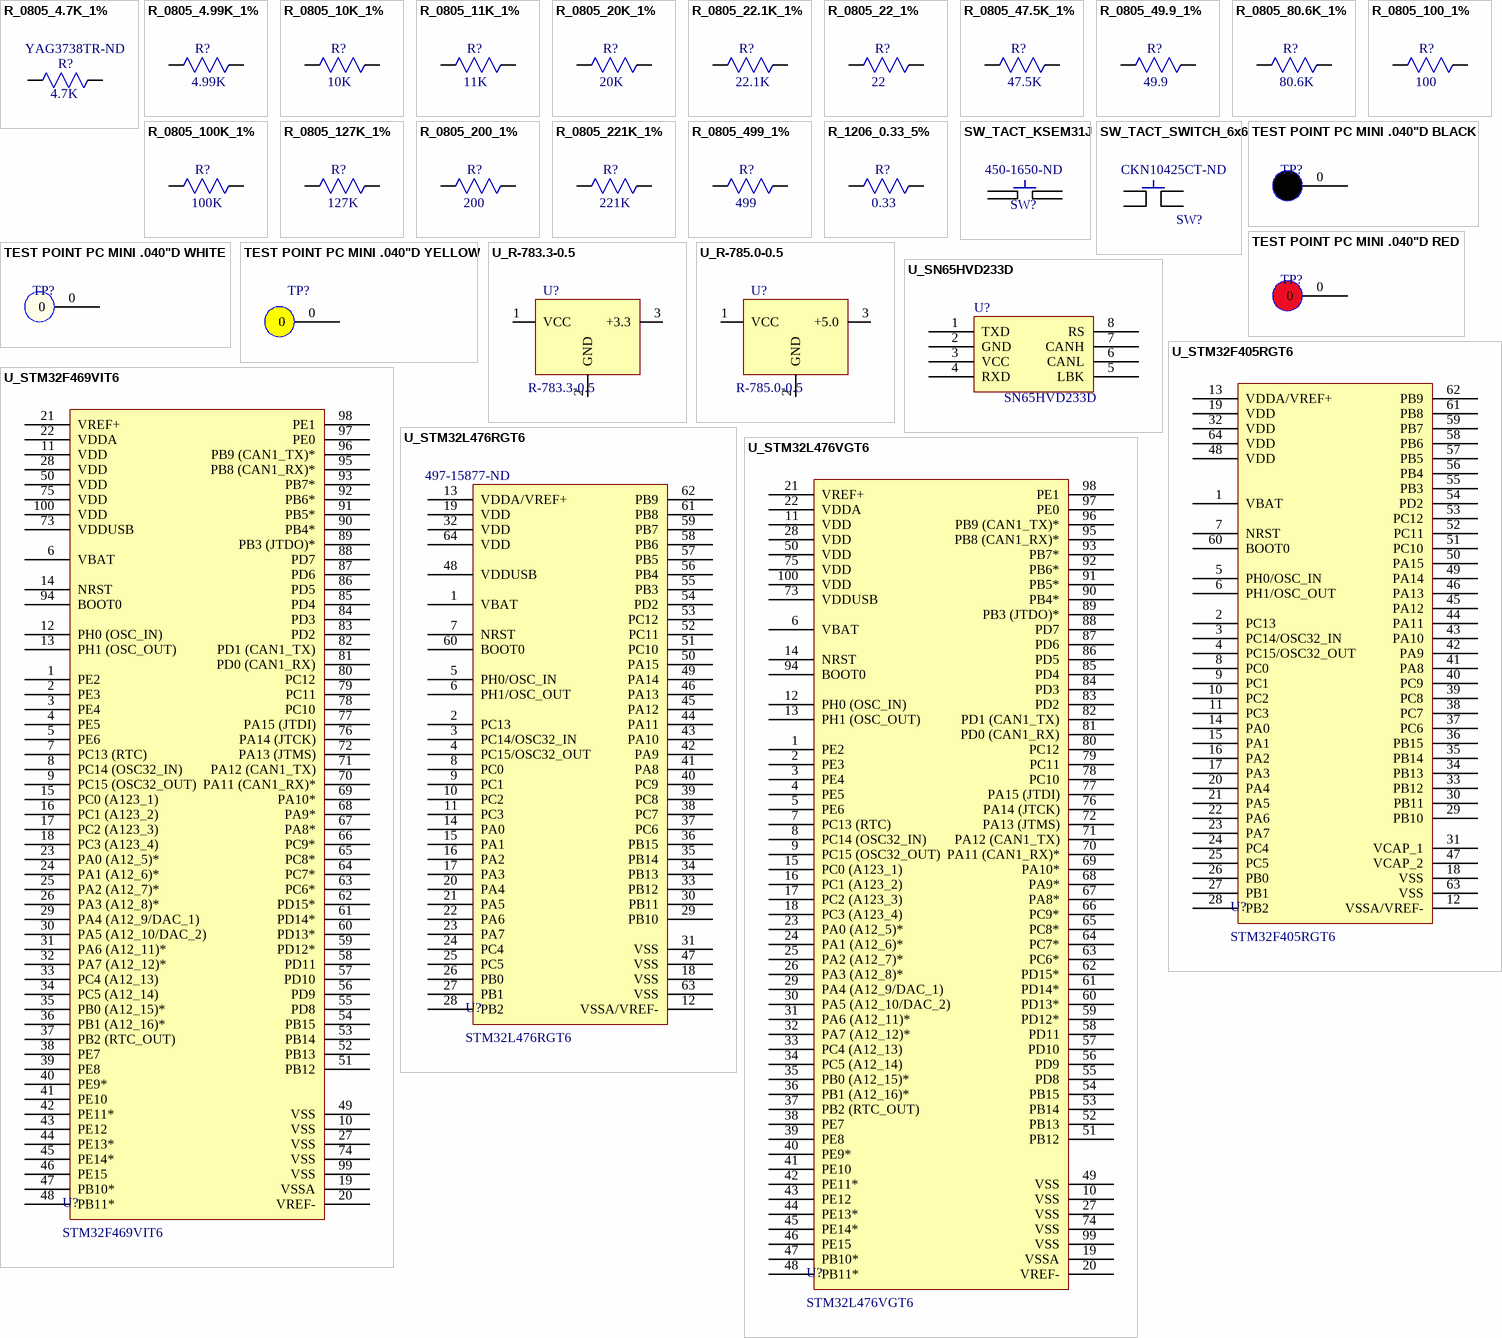
[diagram p2: symbols R_0805_4.7K_1% to U_STM32L476VGT6]

## R_0805_4.7K_1%
designator R?  value 4.7K  Supplier Part Number 1: YAG3738TR-ND  (hidden comment: R_0805_4.7K_1%)
RES 4.7K OHM 1/8W 1% 0805 SMD; Power Rating: 0.125W; SVP Creator: Andrew Wu; Supplier 1: Digi-Key
footprint 0805_Resistor (0805 Resistor)
pins: 1, 2

## R_0805_4.99K_1%
designator R?  value 4.99K  (hidden comment: R_0805_4.99K_1%)
RES 4.99K OHM 1/8W 1% 0805 SMD; Power Rating: 0.125W; SVP Creator: Spencer Berglund; Supplier 1: Digi-Key; Supplier Part Number 1: 311-4.99KCRCT-ND
footprint 0805_Resistor (0805 Resistor)
simulation model Resistor (Resistor Model)
pins: 1, 2

## R_0805_10K_1%
designator R?  value 10K  (hidden comment: R_0805_10K_1%)
RES 10K OHM 1/8W 1% 0805 SMD; Power Rating: 0.125W; SVP Creator: Spencer Berglund; Supplier 1: Digi-Key; Supplier Part Number 1: 311-10.0KCRCT-ND
footprint 0805_Resistor (0805 Resistor)
simulation model Resistor (Resistor Model)
pins: 1, 2

## R_0805_11K_1%
designator R?  value 11K  (hidden comment: R_0805_11K_1%)
RES 11K OHM 1/8W 1% 0805 SMD; Power Rating: 0.125W; SVP Creator: Spencer Berglund; Supplier 1: Digi-Key; Supplier Part Number 1: 311-11.0KCRCT-ND
footprint 0805_Resistor (0805 Resistor)
simulation model Resistor (Resistor Model)
pins: 1, 2

## R_0805_20K_1%
designator R?  value 20K  (hidden comment: R_0805_20K_1%)
RES 20K OHM 1/8W 1% 0805 SMD; Power Rating: 0.125W; SVP Creator: Spencer Berglund; Supplier 1: Digi-Key; Supplier Part Number 1: 311-20.0KCRCT-ND
footprint 0805_Resistor (0805 Resistor)
simulation model Resistor (Resistor Model)
pins: 1, 2

## R_0805_22.1K_1%
designator R?  value 22.1K  (hidden comment: R_0805_22.1K_1%)
RES 22.1K OHM 1/8W 1% 0805 SMD; Power Rating: 0.125W; SVP Creator: Spencer Berglund; Supplier 1: Digi-Key; Supplier Part Number 1: 311-22.1KCRCT-ND
footprint 0805_Resistor (0805 Resistor)
simulation model Resistor (Resistor Model)
pins: 1, 2

## R_0805_22_1%
designator R?  value 22  (hidden comment: R_0805_22_1%)
RES 22 OHM 1/8W 1% 0805 SMD; Power Rating: 0.125W; SVP Creator: Spencer Berglund; Supplier 1: Digi-Key; Supplier Part Number 1: YAG3713TR-ND
footprint 0805_Resistor (0805 Resistor)
simulation model Resistor (Resistor Model)
pins: 1, 2

## R_0805_47.5K_1%
designator R?  value 47.5K  (hidden comment: R_0805_47.5K_1%)
RES 47.5K OHM 1/8W 1% 0805 SMD; Power Rating: 0.125W; SVP Creator: Spencer Berglund; Supplier 1: Digi-Key; Supplier Part Number 1: 311-47.5KCRCT-ND
footprint 0805_Resistor (0805 Resistor)
simulation model Resistor (Resistor Model)
pins: 1, 2

## R_0805_49.9_1%
designator R?  value 49.9  (hidden comment: R_0805_49.9_1%)
RES 49.9 OHM 1/8W 1% 0805 SMD; Power Rating: 0.125W; SVP Creator: Spencer Berglund; Supplier 1: Digi-Key; Supplier Part Number 1: 311-49.9CRCT-ND
footprint 0805_Resistor (0805 Resistor)
simulation model Resistor (Resistor Model)
pins: 1, 2

## R_0805_80.6K_1%
designator R?  value 80.6K  (hidden comment: R_0805_80.6K_1%)
RES 80.6K OHM 1/8W 1% 0805 SMD; Power Rating: 0.125W; SVP Creator: Spencer Berglund; Supplier 1: Digi-Key; Supplier Part Number 1: 311-80.6KCRCT-ND
footprint 0805_Resistor (0805 Resistor)
simulation model Resistor (Resistor Model)
pins: 1, 2

## R_0805_100_1%
designator R?  value 100  (hidden comment: R_0805_100_1%)
RES 100 OHM 1/8W 1% 0805 SMD; Power Rating: 0.125W; SVP Creator: Spencer Berglund; Supplier 1: Digi-Key; Supplier Part Number 1: 311-100CRCT-ND
footprint 0805_Resistor (0805 Resistor)
simulation model Resistor (Resistor Model)
pins: 1, 2

## R_0805_100K_1%
designator R?  value 100K  (hidden comment: R_0805_100K_1%)
RES 100K OHM 1/8W 1% 0805 SMD; Power Rating: 0.125W; SVP Creator: Spencer Berglund; Supplier 1: Digi-Key; Supplier Part Number 1: 311-100KCRCT-ND
footprint 0805_Resistor (0805 Resistor)
simulation model Resistor (Resistor Model)
pins: 1, 2

## R_0805_127K_1%
designator R?  value 127K  (hidden comment: R_0805_127K_1%)
RES 127K OHM 1/8W 1% 0805 SMD; Power Rating: 0.125W; SVP Creator: Spencer Berglund; Supplier 1: Digi-Key; Supplier Part Number 1: 311-127KCRCT-ND
footprint 0805_Resistor (0805 Resistor)
simulation model Resistor (Resistor Model)
pins: 1, 2

## R_0805_200_1%
designator R?  value 200  (hidden comment: R_0805_200_1%)
RES 200 OHM 1/8W 1% 0805 SMD; Power Rating: 0.125W; SVP Creator: Spencer Berglund; Supplier 1: Digi-Key; Supplier Part Number 1: 311-200CRCT-ND
footprint 0805_Resistor (0805 Resistor)
simulation model Resistor (Resistor Model)
pins: 1, 2

## R_0805_221K_1%
designator R?  value 221K  (hidden comment: R_0805_221K_1%)
RES 221K OHM 1/8W 1% 0805 SMD; Power Rating: 0.125W; SVP Creator: Spencer Berglund; Supplier 1: Digi-Key; Supplier Part Number 1: 311-221KCRCT-ND
footprint 0805_Resistor (0805 Resistor)
simulation model Resistor (Resistor Model)
pins: 1, 2

## R_0805_499_1%
designator R?  value 499  (hidden comment: R_0805_499_1%)
RES 499 OHM 1/8W 1% 0805 SMD; Power Rating: 0.125W; SVP Creator: Spencer Berglund; Supplier 1: Digi-Key; Supplier Part Number 1: 311-499CRCT-ND
footprint 0805_Resistor (0805 Resistor)
simulation model Resistor (Resistor Model)
pins: 1, 2

## R_1206_0.33_5%
designator R?  value 0.33  (hidden comment: R_1206_0.33_5%)
RES 0.33 OHM 1/4W 5% 1206 SMD; Power Rating: 0.25W; SVP Creator: Spencer Berglund; Supplier 1: Digi-Key; Supplier Part Number 1: P.33PCT-ND
simulation model Resistor (Resistor Model)
footprint 1206_RESISTOR (1206 Resistor/Capacitor)
pins: 1, 2

## SW_TACT_KSEM31J
designator SW?, comment Supplier Part Number 1: 450-1650-ND  (hidden comment: 1825910-6)
SWITCH TACTILE SPST-NO 0.05A 24V; Manufacturer: TE Connectivity; SVP Creator: Spencer Berglund; Package: 6mm x 6mm; Manufacturer PN: 1825910-6; Supplier 1: Digi-Key
footprint TACT_SWITCH_6x6
pins: 1, 2, 3, 4

## SW_TACT_SWITCH_6x6
designator SW?  Supplier Part Number 1: CKN10425CT-ND  (hidden comment: SW_TACT_SWITCH_6x6)
SWITCH TACT 6MM BLACK 160GF; SVP Creator: Spencer Berglund; Package: 6mm x 6mm; Supplier 1: Digi-Key
footprint TACT_SWITCH_6x6_J-LEAD (SWITCH TACTILE SPST-NO)
pins: 1, 2, 3, 4

## TEST POINT PC MINI .040"D BLACK
designator TP?  (value not drawn)
footprint TEST POINT 0.040" BLACK
pins: 0

## TEST POINT PC MINI .040"D RED
designator TP?  (value not drawn)
footprint TEST POINT 0.040" RED
pins: 0

## TEST POINT PC MINI .040"D WHITE
designator TP?  (value not drawn)
footprint TEST POINT 0.040" WHITE
pins: 0

## TEST POINT PC MINI .040"D YELLOW
designator TP?  (value not drawn)
footprint TEST POINT 0.040" YELLOW
pins: 0

## U_R-783.3-0.5
designator U?, comment R-783.3-0.5
IC REG 0.5A 3.3V; Manufacturer: Recom Power; SVP Creator: Vivien Wang; Efficiency: 91%; Voltage - Input (Min): 4.75V; Voltage - Input (Max): 32V; Current - Output (Max): 500mA; Manufacturer PN: R-783.3-0.5; Voltage - Output 1: 3.3V; Size / Dimension: 0.45" L x 0.30" W x 0.40" H (11.5mm x 7.5mm x 10.2mm); Supplier 1: Digi-Key; Supplier Part Number 1: 945-1035-ND
footprint SIP3
pins: 1 VCC, 2 GND, 3 +3.3

## U_R-785.0-0.5
designator U?, comment R-785.0-0.5
IC REG 0.5A 5.0V; Manufacturer: Recom Power; SVP Creator: Vivien Wang; Known Distributors: Digikey; Manufacturer PN: R-785.0-0.5; ComponentLink1Description: Datasheet; ComponentLink1URL: http://www.digikey.com/product-search/en?vendor=0&keywords=R-785.0-0.5; Price: 6.81; Supplier 1: Digi-Key; Supplier Part Number 1: 945-1037-ND
footprint SIP3
pins: 1 VCC, 2 GND, 3 +5.0

## U_SN65HVD233D
designator U?, comment SN65HVD233D
IC 3.3V CAN TXRX 8-SOIC; Manufacturer: Texas Instruments; SVP Creator: Mitchell Rogalsky; Supplier 1: Digi-Key; Supplier Part Number 1: 296-35967-1-ND; Part Number: SN65HVD233D
footprint SOIC127P600X175-8N (SOIC, 8-Leads, Body 4.9x3.9mm (max), Pitch 1.27mm, IPC Medium Density)
pins: 1 TXD, 2 GND, 3 VCC, 4 RXD, 5 LBK, 6 CANL, 7 CANH, 8 RS

## U_STM32F405RGT6
designator U?, comment STM32F405RGT6
IC MCU 32BIT 1MB FLASH 64LQFP; Manufacturer: STMicroelectronics; SVP Creator: Mitchell Rogalsky; Manufacturer PN: STM32F405RGT6; Supplier: Digikey; Supplier PN: 497-11767-ND; Supplier 1: Digi-Key; Supplier Part Number 1: 497-11767-ND
footprint STM32_LQFP64 (TSQFP, 64-Leads, Body 12.0x12.0mm (max), Pitch 0.50mm, IPC Medium Density)
pins: 1 VBAT, 2 PC13, 3 PC14/OSC32_IN, 4 PC15/OSC32_OUT, 5 PH0/OSC_IN, 6 PH1/OSC_OUT, 7 NRST, 8 PC0, 9 PC1, 10 PC2, 11 PC3, 12 VSSA/VREF-, 13 VDDA/VREF+, 14 PA0, 15 PA1, 16 PA2, 17 PA3, 18 VSS, 19 VDD, 20 PA4, 21 PA5, 22 PA6, 23 PA7, 24 PC4, 25 PC5, 26 PB0, 27 PB1, 28 PB2, 29 PB10, 30 PB11, 31 VCAP_1, 32 VDD, 33 PB12, 34 PB13, 35 PB14, 36 PB15, 37 PC6, 38 PC7, 39 PC8, 40 PC9, 41 PA8, 42 PA9, 43 PA10, 44 PA11, 45 PA12, 46 PA13, 47 VCAP_2, 48 VDD, 49 PA14, 50 PA15, 51 PC10, 52 PC11, 53 PC12, 54 PD2, 55 PB3, 56 PB4, 57 PB5, 58 PB6, 59 PB7, 60 BOOT0, 61 PB8, 62 PB9, 63 VSS, 64 VDD

## U_STM32F469VIT6
designator U?, comment STM32F469VIT6
MCU High-performance advanced line, ARM Cortex-M4 core with DSP and FPU, 2 Mbytes Flash, 180 MHz CPU, ART Accelerator, FMC with SDRAM, Dual QSPI, TFT,MIPI-DSI; Manufacturer: STMicroelectronics; Manufacturer PN: STM32L476VGT6; SVP Creator: Spencer Berglund; Supplier 1: Digi-Key; Supplier Part Number 1: 497-15873-ND
footprint STM32_LQFP100
pins: 1 PE2, 2 PE3, 3 PE4, 4 PE5, 5 PE6, 6 VBAT, 7 PC13 (RTC), 8 PC14 (OSC32_IN), 9 PC15 (OSC32_OUT), 10 VSS, 11 VDD, 12 PH0 (OSC_IN), 13 PH1 (OSC_OUT), 14 NRST, 15 PC0 (A123_1), 16 PC1 (A123_2), 17 PC2 (A123_3), 18 PC3 (A123_4), 19 VSSA, 20 VREF-, 21 VREF+, 22 VDDA, 23 PA0 (A12_5)*, 24 PA1 (A12_6)*, 25 PA2 (A12_7)*, 26 PA3 (A12_8)*, 27 VSS, 28 VDD, 29 PA4 (A12_9/DAC_1), 30 PA5 (A12_10/DAC_2), 31 PA6 (A12_11)*, 32 PA7 (A12_12)*, 33 PC4 (A12_13), 34 PC5 (A12_14), 35 PB0 (A12_15)*, 36 PB1 (A12_16)*, 37 PB2 (RTC_OUT), 38 PE7, 39 PE8, 40 PE9*, 41 PE10, 42 PE11*, 43 PE12, 44 PE13*, 45 PE14*, 46 PE15, 47 PB10*, 48 PB11*, 49 VSS, 50 VDD, 51 PB12, 52 PB13, 53 PB14, 54 PB15, 55 PD8, 56 PD9, 57 PD10, 58 PD11, 59 PD12*, 60 PD13*, 61 PD14*, 62 PD15*, 63 PC6*, 64 PC7*, 65 PC8*, 66 PC9*, 67 PA8*, 68 PA9*, 69 PA10*, 70 PA11 (CAN1_RX)*, 71 PA12 (CAN1_TX), 72 PA13 (JTMS), 73 VDDUSB, 74 VSS, 75 VDD, 76 PA14 (JTCK), 77 PA15 (JTDI), 78 PC10, 79 PC11, 80 PC12, 81 PD0 (CAN1_RX), 82 PD1 (CAN1_TX), 83 PD2, 84 PD3, 85 PD4, 86 PD5, 87 PD6, 88 PD7, 89 PB3 (JTDO)*, 90 PB4*, 91 PB5*, 92 PB6*, 93 PB7*, 94 BOOT0, 95 PB8 (CAN1_RX)*, 96 PB9 (CAN1_TX)*, 97 PE0, 98 PE1, 99 VSS, 100 VDD

## U_STM32L476RGT6
designator U?, comment STM32L476RGT6  Supplier Part Number 1: 497-15877-ND
IC MCU 32BIT 1MB FLASH 64LQFP; Manufacturer: STMicroelectronics; Manufacturer PN: STM32L405RGT6; SVP Creator: Spencer Berglund; Supplier 1: Digi-Key
footprint STM32_LQFP64 (TSQFP, 64-Leads, Body 12.0x12.0mm (max), Pitch 0.50mm, IPC Medium Density)
pins: 1 VBAT, 2 PC13, 3 PC14/OSC32_IN, 4 PC15/OSC32_OUT, 5 PH0/OSC_IN, 6 PH1/OSC_OUT, 7 NRST, 8 PC0, 9 PC1, 10 PC2, 11 PC3, 12 VSSA/VREF-, 13 VDDA/VREF+, 14 PA0, 15 PA1, 16 PA2, 17 PA3, 18 VSS, 19 VDD, 20 PA4, 21 PA5, 22 PA6, 23 PA7, 24 PC4, 25 PC5, 26 PB0, 27 PB1, 28 PB2, 29 PB10, 30 PB11, 31 VSS, 32 VDD, 33 PB12, 34 PB13, 35 PB14, 36 PB15, 37 PC6, 38 PC7, 39 PC8, 40 PC9, 41 PA8, 42 PA9, 43 PA10, 44 PA11, 45 PA12, 46 PA13, 47 VSS, 48 VDDUSB, 49 PA14, 50 PA15, 51 PC10, 52 PC11, 53 PC12, 54 PD2, 55 PB3, 56 PB4, 57 PB5, 58 PB6, 59 PB7, 60 BOOT0, 61 PB8, 62 PB9, 63 VSS, 64 VDD

## U_STM32L476VGT6
designator U?, comment STM32L476VGT6
IC MCU 32BIT 1MB FLASH 100LQFP; Manufacturer: STMicroelectronics; SVP Creator: Spencer Berglund; Manufacturer PN: STM32L476VGT6; Supplier 1: Digi-Key; Supplier Part Number 1: 497-15873-ND
pins: 1 PE2, 2 PE3, 3 PE4, 4 PE5, 5 PE6, 6 VBAT, 7 PC13 (RTC), 8 PC14 (OSC32_IN), 9 PC15 (OSC32_OUT), 10 VSS, 11 VDD, 12 PH0 (OSC_IN), 13 PH1 (OSC_OUT), 14 NRST, 15 PC0 (A123_1), 16 PC1 (A123_2), 17 PC2 (A123_3), 18 PC3 (A123_4), 19 VSSA, 20 VREF-, 21 VREF+, 22 VDDA, 23 PA0 (A12_5)*, 24 PA1 (A12_6)*, 25 PA2 (A12_7)*, 26 PA3 (A12_8)*, 27 VSS, 28 VDD, 29 PA4 (A12_9/DAC_1), 30 PA5 (A12_10/DAC_2), 31 PA6 (A12_11)*, 32 PA7 (A12_12)*, 33 PC4 (A12_13), 34 PC5 (A12_14), 35 PB0 (A12_15)*, 36 PB1 (A12_16)*, 37 PB2 (RTC_OUT), 38 PE7, 39 PE8, 40 PE9*, 41 PE10, 42 PE11*, 43 PE12, 44 PE13*, 45 PE14*, 46 PE15, 47 PB10*, 48 PB11*, 49 VSS, 50 VDD, 51 PB12, 52 PB13, 53 PB14, 54 PB15, 55 PD8, 56 PD9, 57 PD10, 58 PD11, 59 PD12*, 60 PD13*, 61 PD14*, 62 PD15*, 63 PC6*, 64 PC7*, 65 PC8*, 66 PC9*, 67 PA8*, 68 PA9*, 69 PA10*, 70 PA11 (CAN1_RX)*, 71 PA12 (CAN1_TX), 72 PA13 (JTMS), 73 VDDUSB, 74 VSS, 75 VDD, 76 PA14 (JTCK), 77 PA15 (JTDI), 78 PC10, 79 PC11, 80 PC12, 81 PD0 (CAN1_RX), 82 PD1 (CAN1_TX), 83 PD2, 84 PD3, 85 PD4, 86 PD5, 87 PD6, 88 PD7, 89 PB3 (JTDO)*, 90 PB4*, 91 PB5*, 92 PB6*, 93 PB7*, 94 BOOT0, 95 PB8 (CAN1_RX)*, 96 PB9 (CAN1_TX)*, 97 PE0, 98 PE1, 99 VSS, 100 VDD

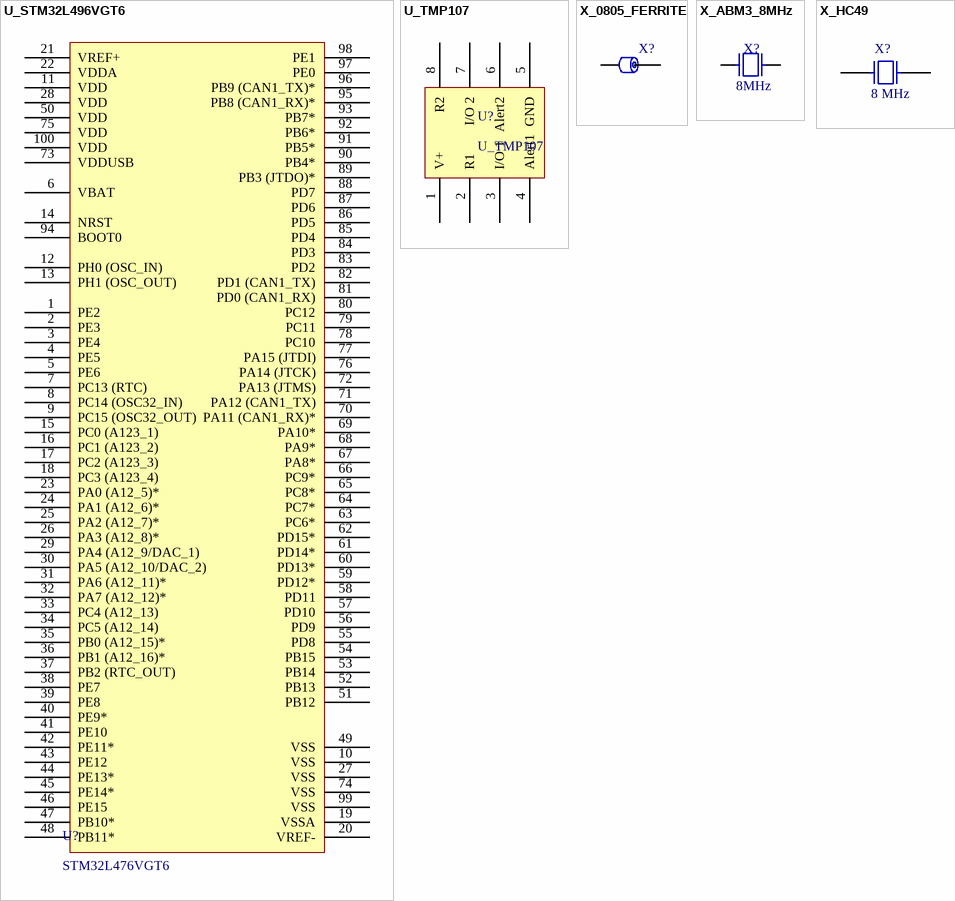
[diagram p3: symbols U_STM32L496VGT6 to X_HC49]

## U_STM32L496VGT6
designator U?, comment STM32L476VGT6
IC MCU 32BIT 1MB FLASH 100LQFP; Manufacturer: STMicroelectronics; SVP Creator: Spencer Berglund; Manufacturer PN: STM32L476VGT6; Supplier 1: Digi-Key; Supplier Part Number 1: 497-15873-ND
footprint STM32_LQFP100
pins: 1 PE2, 2 PE3, 3 PE4, 4 PE5, 5 PE6, 6 VBAT, 7 PC13 (RTC), 8 PC14 (OSC32_IN), 9 PC15 (OSC32_OUT), 10 VSS, 11 VDD, 12 PH0 (OSC_IN), 13 PH1 (OSC_OUT), 14 NRST, 15 PC0 (A123_1), 16 PC1 (A123_2), 17 PC2 (A123_3), 18 PC3 (A123_4), 19 VSSA, 20 VREF-, 21 VREF+, 22 VDDA, 23 PA0 (A12_5)*, 24 PA1 (A12_6)*, 25 PA2 (A12_7)*, 26 PA3 (A12_8)*, 27 VSS, 28 VDD, 29 PA4 (A12_9/DAC_1), 30 PA5 (A12_10/DAC_2), 31 PA6 (A12_11)*, 32 PA7 (A12_12)*, 33 PC4 (A12_13), 34 PC5 (A12_14), 35 PB0 (A12_15)*, 36 PB1 (A12_16)*, 37 PB2 (RTC_OUT), 38 PE7, 39 PE8, 40 PE9*, 41 PE10, 42 PE11*, 43 PE12, 44 PE13*, 45 PE14*, 46 PE15, 47 PB10*, 48 PB11*, 49 VSS, 50 VDD, 51 PB12, 52 PB13, 53 PB14, 54 PB15, 55 PD8, 56 PD9, 57 PD10, 58 PD11, 59 PD12*, 60 PD13*, 61 PD14*, 62 PD15*, 63 PC6*, 64 PC7*, 65 PC8*, 66 PC9*, 67 PA8*, 68 PA9*, 69 PA10*, 70 PA11 (CAN1_RX)*, 71 PA12 (CAN1_TX), 72 PA13 (JTMS), 73 VDDUSB, 74 VSS, 75 VDD, 76 PA14 (JTCK), 77 PA15 (JTDI), 78 PC10, 79 PC11, 80 PC12, 81 PD0 (CAN1_RX), 82 PD1 (CAN1_TX), 83 PD2, 84 PD3, 85 PD4, 86 PD5, 87 PD6, 88 PD7, 89 PB3 (JTDO)*, 90 PB4*, 91 PB5*, 92 PB6*, 93 PB7*, 94 BOOT0, 95 PB8 (CAN1_RX)*, 96 PB9 (CAN1_TX)*, 97 PE0, 98 PE1, 99 VSS, 100 VDD

## U_TMP107
designator U?
Manufacturer: Texas Instruments
footprint SOIC-8 (SOIC, 8-Leads, Body 4.9x3.9mm (max), Pitch 1.27mm, IPC Medium Density)
pins: 1 V+, 2 R1, 3 I/O 1, 4 Alert1, 5 GND, 6 Alert2, 7 I/O 2, 8 R2

## X_0805_FERRITE
designator X?, comment FERRITE 0805  (value not drawn)
FERRITE CHIP BEAD 600 OHM SMD 0805; Manufacturer: TDK; Manufacturer PN: MPZ2012S601AT000; SVP Creator: Mitchell Rogalsky; Known Distributors: Digikey; Package: 0805; Distributor PN: 445-2206-1-ND; Supplier 1: Digi-Key; Supplier Part Number 1: 1276-6371-1-ND
footprint 0805_Resistor (0805 Resistor)
pins: 1, 2

## X_ABM3_8MHz
designator X?, comment value 8MHz  (hidden comment: ABM3-8.000MHZ-D2Y-T)
Crystal 8.0000MHz 20ppm 18pF 140 Ohm -40°C - 85°C Surface Mount 2-SMD; SVP Creator: Spencer Berglund; Supplier 1: Digi-Key; Supplier Part Number 1: 535-10630-1-ND
footprint ABM3_CRYSTAL (ABM3  Ceramic Crystal)
simulation model XTAL (Generic type:crystal pkg:HC33/51)
pins: 1, 2

## X_HC49
designator X?, comment value 8 MHz  (hidden comment: HC49)
CRYSTAL 8.00 MHZ 20PF 49US; Manufacturer: ECS; Manufacturer PN: ECS-80-20-4X; SVP Creator: Jonathan Nutzmann; Load Capacitance: 20pF; Supplier: Digikey; Package: HC49/US; Supplier PN: X1094-ND; Supplier 1: Digi-Key; Supplier Part Number 1: X1094-ND
footprint HC-49
simulation model XTAL (Generic type:crystal pkg:HC33/51)
pins: 1, 2